# Altium footprint library TerminalBlock_Phoenix.PcbLib: 114 footprints (part 7 of 8)
Each footprint in its own frame and in the unit in brackets; x right, y up, seen from the top. Pads: shape width x height; smd on the part's side, far side on the other; paste and mask are expansions set on the pad; w line width, h text height; cw(c..) or ccw(c..) is an arc to the next point about the centre after c.
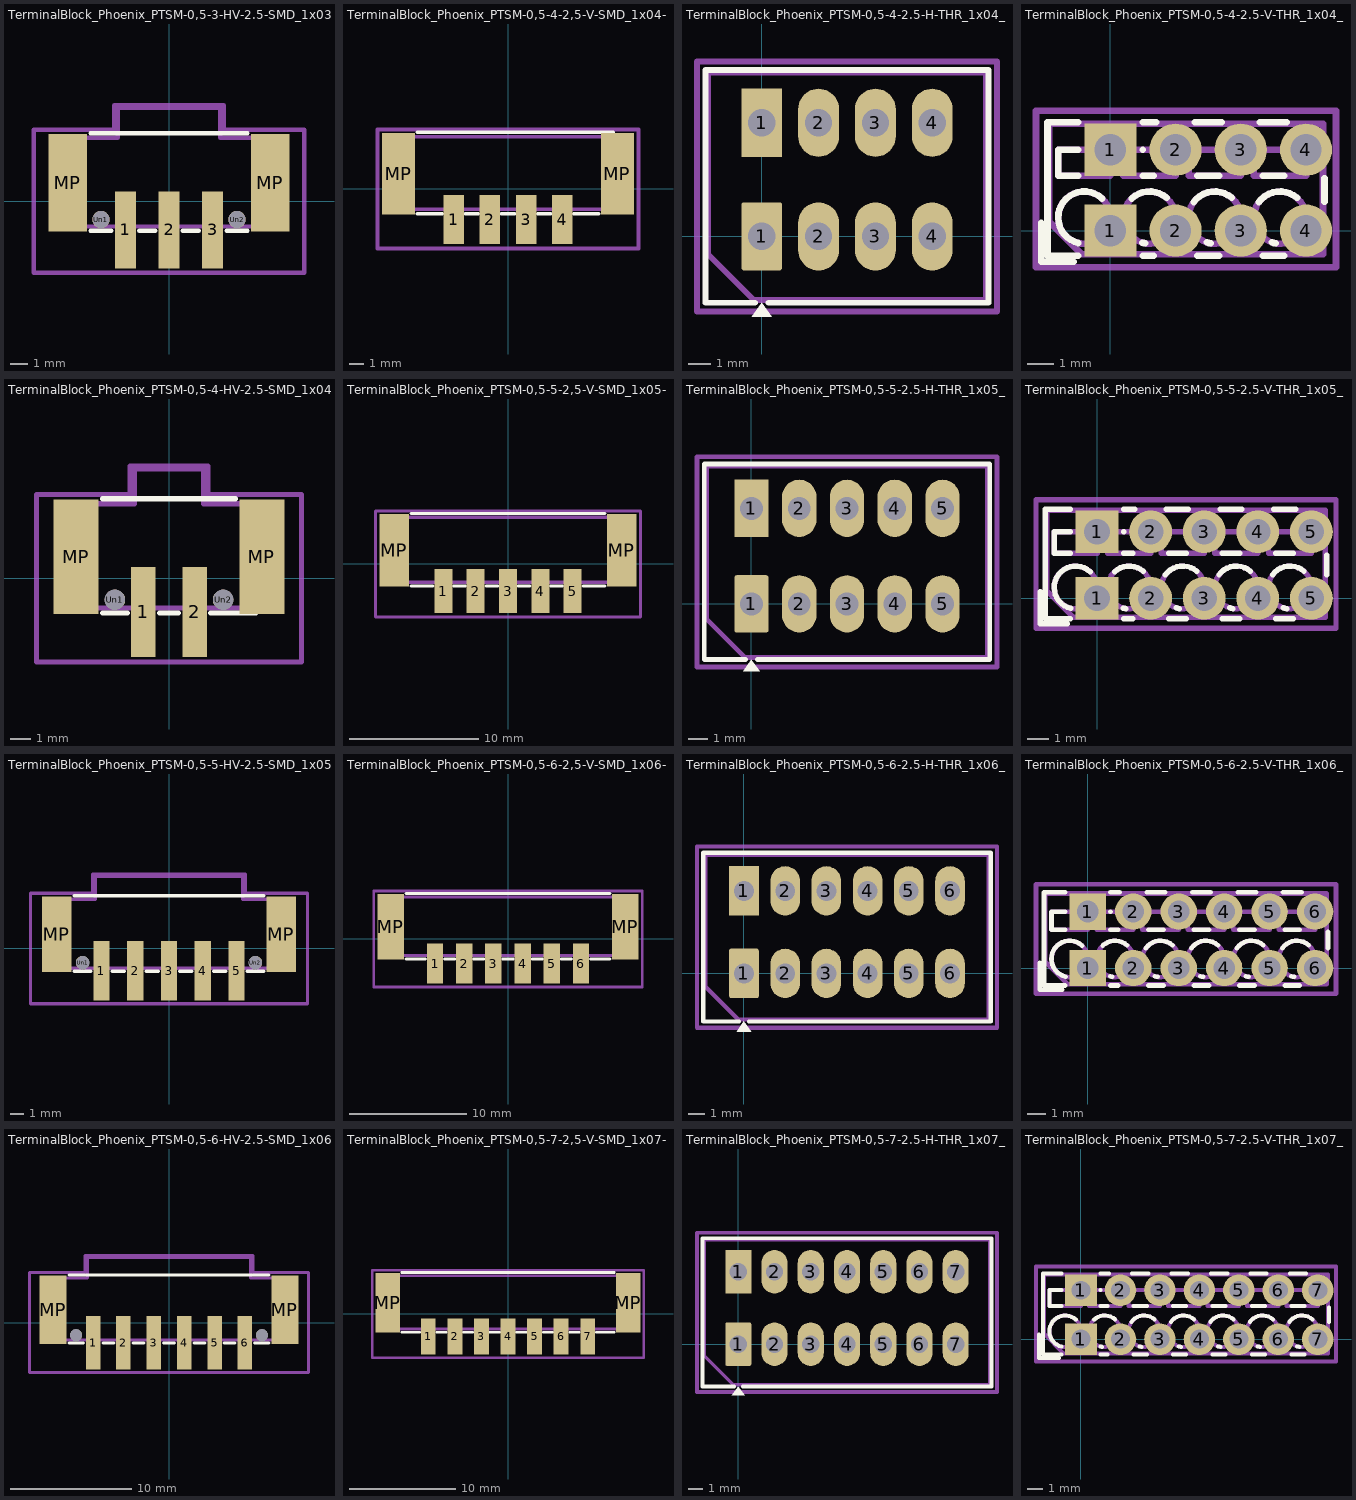
[diagram p6: the footprints below, top view; thin cyan lines are the x and y axes]

## TerminalBlock_Phoenix_PTSM-0,5-3-HV-2.5-SMD_1x03-1MP_P2.50mm_Vertical [mm]
pads (7):
  rect 1.2x4.4 smd: 1(-2.5,-1.65) 2(0,-1.65) 3(2.5,-1.65)
  rect 2.2x5.6 smd: MP(-5.8,1.05) MP(5.8,1.05)
  round 1 hole 1: Un1(-3.9,-1.05) Un2(3.9,-1.05)
F.SilkS:
  lines w0.254: -4.5,-1.7 -3.3,-1.7 ; -4.5,3.9 4.5,3.9 ; -1.7,-1.7 -0.8,-1.7 ; 0.8,-1.7 1.7,-1.7 ; 3.3,-1.7 4.5,-1.7
F.CrtYd:
  lines w0.254: -7.75,-4.1 -7.75,4.1 -3.15,4.1 -3.15,5.5 3.15,5.5 3.15,4.1 7.75,4.1 7.75,-4.1 -7.75,-4.1
F.Fab:
  lines w0.254: -6.55,3.55 -6.55,-1.45 6.55,-1.45 6.55,3.6 ; -6.55,3.65 -2.95,3.65 -2.95,5.35 2.95,5.35 2.95,3.65 6.55,3.65 ; -2.9,-1.45 -2.9,-3.51 -2.1,-3.51 -2.1,-1.45 ; -0.4,-1.45 -0.4,-3.51 0.4,-3.51 0.4,-1.45 ; 2.1,-1.45 2.1,-3.51 2.9,-3.51 2.9,-1.45
  text "'.Designator'" at -1.439,0.522 h1

## TerminalBlock_Phoenix_PTSM-0,5-4-2,5-V-SMD_1x04-1MP_P2.50mm_Vertical [mm]
pads (6):
  rect 1.4x3.4 smd: 1(-3.75,-2.13) 2(-1.25,-2.13) 3(1.25,-2.13) 4(3.75,-2.13)
  rect 2.3x5.6 smd: MP(-7.55,1.03) MP(7.55,1.03)
F.SilkS:
  lines w0.254: -6.25,-1.73 -4.55,-1.73 ; -6.25,3.88 7.25,3.88 ; -2.95,-1.73 -2.05,-1.73 ; -0.45,-1.73 0.45,-1.73 ; 2.05,-1.73 2.95,-1.73 ; 4.55,-1.73 6.25,-1.73
F.CrtYd:
  lines w0.254: -9,-4.13 -9,4.08 9,4.08 9,-4.13 -9,-4.13
F.Fab:
  lines w0.254: -4.15,-1.43 -4.15,-3.43 -3.35,-3.43 -3.35,-1.43 ; -1.65,-1.43 -1.65,-3.43 -0.85,-3.43 -0.85,-1.43 ; 0.85,-1.43 0.85,-3.43 1.65,-3.43 1.65,-1.43 ; 3.35,-1.43 3.35,-3.43 4.15,-3.43 4.15,-1.43 ; -7.55,-1.43 -7.55,3.58 7.55,3.58 7.55,-1.43 -7.55,-1.43
  text "'.Designator'" at -1.439,-0.323 h1

## TerminalBlock_Phoenix_PTSM-0,5-4-2.5-H-THR_1x04_P2.50mm_Horizontal [mm]
pads (8):
  rrect14% 1.8x3 hole 1.2: 1(0,0)
  rect 1.8x3 hole 1.2: 1(0,5)
  rrect100% 1.8x3 hole 1.2: 2(2.5,0) 2(2.5,5) 3(5,0) 3(5,5) 4(7.5,0) 4(7.5,5)
F.SilkS:
  region: 0.44,-3.53 -0.44,-3.53 0,-2.92
  lines w0.254: -0.3,-2.92 -2.47,-2.92 -2.47,7.32 9.97,7.32 9.97,-2.92 0.3,-2.92
F.CrtYd:
  lines w0.254: -2.85,-3.3 -2.85,7.7 10.35,7.7 10.35,-3.3 -2.85,-3.3
F.Fab:
  lines w0.254: -2.35,-0.8 -2.35,7.2 9.85,7.2 9.85,-2.8 -0.35,-2.8 -2.35,-0.8
  text "'.Designator'" at 2.311,1.802 h1

## TerminalBlock_Phoenix_PTSM-0,5-4-2.5-V-THR_1x04_P2.50mm_Vertical [mm]
pads (8):
  rect 2x2 hole 1.2: 1(0,0) 1(0,3.1)
  round 2 hole 1.2: 2(2.5,0) 2(2.5,3.1) 3(5,0) 3(5,3.1) 4(7.5,0) 4(7.5,3.1)
F.SilkS:
  lines w0.254: -2.65,0.29 -2.65,-1.2 -1.4,-1.2 ; -1.24,-0.961 -2.41,-0.961 -2.41,4.16 -1.24,4.16 ; -1.24,2.1 -2,2.1 -2,3.1 -1.24,3.1 ; -1.225,-0.475 cw(c-1,0.5) -0.318,1.232 ; 0.818,1.232 cw(c1.5,0.5) 2.157,1.255 ; 1.225,-0.462 ccw(c1.5,0.5) 1.344,-0.488 ; 1.24,-0.961 1.665,-0.961 ; 1.24,2.1 1.665,2.1 ; 1.24,3.1 1.245,3.1 ; 1.24,4.16 1.763,4.16 ; 3.191,1.089 cw(c4,0.5) 4.657,1.255 ; 3.238,4.16 4.263,4.16 ; 3.336,-0.961 4.165,-0.961 ; 3.336,2.1 4.165,2.1 ; 3.691,-0.452 ccw(c4,0.5) 3.844,-0.489 ; 5.691,1.089 cw(c6.5,0.5) 7.157,1.255 ; 5.738,4.16 6.763,4.16 ; 5.836,-0.961 6.665,-0.961 ; 5.836,2.1 6.665,2.1 ; 6.191,-0.452 ccw(c6.5,0.5) 6.344,-0.489 ; 8.21,1.1 8.21,2
F.CrtYd:
  lines w0.254: -2.85,-1.41 -2.85,4.6 8.65,4.6 8.65,-1.41 -2.85,-1.41
F.Fab:
  circle w0.254: c-1,0.5 r1
  circle w0.254: c1.5,0.5 r1
  circle w0.254: c4,0.5 r1
  circle w0.254: c6.5,0.5 r1
  lines w0.254: -2.35,0.35 -2.35,4.1 8.15,4.1 8.15,-0.9 -1.1,-0.9 -2.35,0.35 ; -2,2.1 -2,3.1 0,3.1 0,2.1 -2,2.1 ; 0.5,2.1 0.5,3.1 2.5,3.1 2.5,2.1 0.5,2.1 ; 3,2.1 3,3.1 5,3.1 5,2.1 3,2.1 ; 5.5,2.1 5.5,3.1 7.5,3.1 7.5,2.1 5.5,2.1
  text "'.Designator'" at 1.461,4.762 h1

## TerminalBlock_Phoenix_PTSM-0,5-4-HV-2.5-SMD_1x04-1MP_P2.50mm_Vertical [mm]
pads (6):
  rect 1.2x4.4 smd: 1(-1.25,-1.65) 2(1.25,-1.65)
  rect 2.2x5.6 smd: MP(-4.55,1.05) MP(4.55,1.05)
  round 1 hole 1: Un1(-2.65,-1.05) Un2(2.65,-1.05)
F.SilkS:
  lines w0.254: -3.25,-1.7 -2.05,-1.7 ; -3.25,3.9 3.25,3.9 ; -0.45,-1.7 0.45,-1.7 ; 2.05,-1.7 4.25,-1.7
F.CrtYd:
  lines w0.254: -6.5,-4.1 -6.5,4.1 -1.9,4.1 -1.9,5.5 1.9,5.5 1.9,4.1 6.5,4.1 6.5,-4.1 -6.5,-4.1
F.Fab:
  lines w0.254: -5.3,3.55 -5.3,-1.45 5.3,-1.45 5.3,3.6 ; -5.3,3.65 -1.7,3.65 -1.7,5.35 1.7,5.35 1.7,3.65 5.3,3.65 ; -1.65,-1.45 -1.65,-3.51 -0.85,-3.51 -0.85,-1.45 ; 0.85,-1.45 0.85,-3.51 1.65,-3.51 1.65,-1.45
  text "'.Designator'" at -1.439,0.522 h1

## TerminalBlock_Phoenix_PTSM-0,5-5-2,5-V-SMD_1x05-1MP_P2.50mm_Vertical [mm]
pads (7):
  rect 1.4x3.4 smd: 1(-5,-2.13) 2(-2.5,-2.13) 3(0,-2.13) 4(2.5,-2.13) 5(5,-2.13)
  rect 2.3x5.6 smd: MP(-8.8,1.03) MP(8.8,1.03)
F.SilkS:
  lines w0.254: -7.5,-1.73 -5.8,-1.73 ; -7.5,3.88 7.5,3.88 ; -4.2,-1.73 -3.3,-1.73 ; -1.7,-1.73 -0.8,-1.73 ; 0.8,-1.73 1.7,-1.73 ; 3.3,-1.73 4.2,-1.73 ; 5.8,-1.73 7.5,-1.73
F.CrtYd:
  lines w0.254: -10.25,-4.13 -10.25,4.08 10.25,4.08 10.25,-4.13 -10.25,-4.13
F.Fab:
  lines w0.254: -5.4,-1.43 -5.4,-3.43 -4.6,-3.43 -4.6,-1.43 ; -2.9,-1.43 -2.9,-3.43 -2.1,-3.43 -2.1,-1.43 ; -0.4,-1.43 -0.4,-3.43 0.4,-3.43 0.4,-1.43 ; 2.1,-1.43 2.1,-3.43 2.9,-3.43 2.9,-1.43 ; 4.6,-1.43 4.6,-3.43 5.4,-3.43 5.4,-1.43 ; -8.8,-1.43 -8.8,3.58 8.8,3.58 8.8,-1.43 -8.8,-1.43
  text "'.Designator'" at -1.439,-0.323 h1

## TerminalBlock_Phoenix_PTSM-0,5-5-2.5-H-THR_1x05_P2.50mm_Horizontal [mm]
pads (10):
  rrect14% 1.8x3 hole 1.2: 1(0,0)
  rect 1.8x3 hole 1.2: 1(0,5)
  rrect100% 1.8x3 hole 1.2: 2(2.5,0) 2(2.5,5) 3(5,0) 3(5,5) 4(7.5,0) 4(7.5,5) 5(10,0) 5(10,5)
F.SilkS:
  region: 0.44,-3.53 -0.44,-3.53 0,-2.92
  lines w0.254: -0.3,-2.92 -2.47,-2.92 -2.47,7.32 12.47,7.32 12.47,-2.92 0.3,-2.92
F.CrtYd:
  lines w0.254: -2.85,-3.3 -2.85,7.7 12.85,7.7 12.85,-3.3 -2.85,-3.3
F.Fab:
  lines w0.254: -2.35,-0.8 -2.35,7.2 12.35,7.2 12.35,-2.8 -0.35,-2.8 -2.35,-0.8
  text "'.Designator'" at 3.561,1.802 h1

## TerminalBlock_Phoenix_PTSM-0,5-5-2.5-V-THR_1x05_P2.50mm_Vertical [mm]
pads (10):
  rect 2x2 hole 1.2: 1(0,0) 1(0,3.1)
  round 2 hole 1.2: 2(2.5,0) 2(2.5,3.1) 3(5,0) 3(5,3.1) 4(7.5,0) 4(7.5,3.1) 5(10,0) 5(10,3.1)
F.SilkS:
  lines w0.254: -2.65,0.29 -2.65,-1.2 -1.4,-1.2 ; -1.24,-0.961 -2.41,-0.961 -2.41,4.16 -1.24,4.16 ; -1.24,2.1 -2,2.1 -2,3.1 -1.24,3.1 ; -1.225,-0.475 cw(c-1,0.5) -0.318,1.232 ; 0.818,1.232 cw(c1.5,0.5) 2.157,1.255 ; 1.225,-0.462 ccw(c1.5,0.5) 1.344,-0.488 ; 1.24,-0.961 1.665,-0.961 ; 1.24,2.1 1.665,2.1 ; 1.24,3.1 1.245,3.1 ; 1.24,4.16 1.763,4.16 ; 3.191,1.089 cw(c4,0.5) 4.657,1.255 ; 3.238,4.16 4.263,4.16 ; 3.336,-0.961 4.165,-0.961 ; 3.336,2.1 4.165,2.1 ; 3.691,-0.452 ccw(c4,0.5) 3.844,-0.489 ; 5.691,1.089 cw(c6.5,0.5) 7.157,1.255 ; 5.738,4.16 6.763,4.16 ; 5.836,-0.961 6.665,-0.961 ; 5.836,2.1 6.665,2.1 ; 6.191,-0.452 ccw(c6.5,0.5) 6.344,-0.489 ; 8.191,1.089 cw(c9,0.5) 9.657,1.255 ; 8.238,4.16 9.263,4.16 ; 8.336,-0.961 9.165,-0.961 ; 8.336,2.1 9.165,2.1 ; 8.691,-0.452 ccw(c9,0.5) 8.844,-0.489 ; 10.71,1.1 10.71,2
F.CrtYd:
  lines w0.254: -2.85,-1.41 -2.85,4.6 11.15,4.6 11.15,-1.41 -2.85,-1.41
F.Fab:
  circle w0.254: c-1,0.5 r1
  circle w0.254: c1.5,0.5 r1
  circle w0.254: c4,0.5 r1
  circle w0.254: c6.5,0.5 r1
  circle w0.254: c9,0.5 r1
  lines w0.254: -2.35,0.35 -2.35,4.1 10.65,4.1 10.65,-0.9 -1.1,-0.9 -2.35,0.35 ; -2,2.1 -2,3.1 0,3.1 0,2.1 -2,2.1 ; 0.5,2.1 0.5,3.1 2.5,3.1 2.5,2.1 0.5,2.1 ; 3,2.1 3,3.1 5,3.1 5,2.1 3,2.1 ; 5.5,2.1 5.5,3.1 7.5,3.1 7.5,2.1 5.5,2.1 ; 8,2.1 8,3.1 10,3.1 10,2.1 8,2.1
  text "'.Designator'" at 2.711,4.762 h1

## TerminalBlock_Phoenix_PTSM-0,5-5-HV-2.5-SMD_1x05-1MP_P2.50mm_Vertical [mm]
pads (9):
  rect 1.2x4.4 smd: 1(-5,-1.65) 2(-2.5,-1.65) 3(0,-1.65) 4(2.5,-1.65) 5(5,-1.65)
  rect 2.2x5.6 smd: MP(-8.3,1.05) MP(8.3,1.05)
  round 1 hole 1: Un1(-6.4,-1.05) Un2(6.4,-1.05)
F.SilkS:
  lines w0.254: -7,-1.7 -5.8,-1.7 ; -7,3.9 7,3.9 ; -4.2,-1.7 -3.3,-1.7 ; -1.7,-1.7 -0.8,-1.7 ; 0.8,-1.7 1.7,-1.7 ; 3.3,-1.7 4.2,-1.7 ; 5.8,-1.7 7,-1.7
F.CrtYd:
  lines w0.254: -10.25,-4.1 -10.25,4.1 -5.65,4.1 -5.65,5.5 5.65,5.5 5.65,4.1 10.25,4.1 10.25,-4.1 -10.25,-4.1
F.Fab:
  lines w0.254: -9.05,3.55 -9.05,-1.45 9.05,-1.45 9.05,3.6 ; -9.05,3.65 -5.45,3.65 -5.45,5.35 5.45,5.35 5.45,3.65 9.05,3.65 ; -5.4,-1.45 -5.4,-3.51 -4.6,-3.51 -4.6,-1.45 ; -2.9,-1.45 -2.9,-3.51 -2.1,-3.51 -2.1,-1.45 ; -0.4,-1.45 -0.4,-3.51 0.4,-3.51 0.4,-1.45 ; 2.1,-1.45 2.1,-3.51 2.9,-3.51 2.9,-1.45 ; 4.6,-1.45 4.6,-3.51 5.4,-3.51 5.4,-1.45
  text "'.Designator'" at -1.439,0.522 h1

## TerminalBlock_Phoenix_PTSM-0,5-6-2,5-V-SMD_1x06-1MP_P2.50mm_Vertical [mm]
pads (8):
  rect 1.4x3.4 smd: 1(-6.25,-2.13) 2(-3.75,-2.13) 3(-1.25,-2.13) 4(1.25,-2.13) 5(3.75,-2.13) 6(6.25,-2.13)
  rect 2.3x5.6 smd: MP(-10.05,1.03) MP(10.05,1.03)
F.SilkS:
  lines w0.254: -8.75,-1.73 -7.05,-1.73 ; -8.75,3.88 8.75,3.88 ; -5.45,-1.73 -4.55,-1.73 ; -2.95,-1.73 -2.05,-1.73 ; -0.45,-1.73 0.45,-1.73 ; 2.05,-1.73 2.95,-1.73 ; 4.55,-1.73 5.45,-1.73 ; 7.05,-1.73 8.75,-1.73
F.CrtYd:
  lines w0.254: -11.5,-4.13 -11.5,4.08 11.5,4.08 11.5,-4.13 -11.5,-4.13
F.Fab:
  lines w0.254: -6.65,-1.43 -6.65,-3.43 -5.85,-3.43 -5.85,-1.43 ; -4.15,-1.43 -4.15,-3.43 -3.35,-3.43 -3.35,-1.43 ; -1.65,-1.43 -1.65,-3.43 -0.85,-3.43 -0.85,-1.43 ; 0.85,-1.43 0.85,-3.43 1.65,-3.43 1.65,-1.43 ; 3.35,-1.43 3.35,-3.43 4.15,-3.43 4.15,-1.43 ; 5.85,-1.43 5.85,-3.43 6.65,-3.43 6.65,-1.43 ; -10.05,-1.43 -10.05,3.58 10.05,3.58 10.05,-1.43 -10.05,-1.43
  text "'.Designator'" at -1.439,-0.323 h1

## TerminalBlock_Phoenix_PTSM-0,5-6-2.5-H-THR_1x06_P2.50mm_Horizontal [mm]
pads (12):
  rrect14% 1.8x3 hole 1.2: 1(0,0)
  rect 1.8x3 hole 1.2: 1(0,5)
  rrect100% 1.8x3 hole 1.2: 2(2.5,0) 2(2.5,5) 3(5,0) 3(5,5) 4(7.5,0) 4(7.5,5) 5(10,0) 5(10,5) 6(12.5,0) 6(12.5,5)
F.SilkS:
  region: 0.44,-3.53 -0.44,-3.53 0,-2.92
  lines w0.254: -0.3,-2.92 -2.47,-2.92 -2.47,7.32 14.97,7.32 14.97,-2.92 0.3,-2.92
F.CrtYd:
  lines w0.254: -2.85,-3.3 -2.85,7.7 15.35,7.7 15.35,-3.3 -2.85,-3.3
F.Fab:
  lines w0.254: -2.35,-0.8 -2.35,7.2 14.85,7.2 14.85,-2.8 -0.35,-2.8 -2.35,-0.8
  text "'.Designator'" at 4.811,1.802 h1

## TerminalBlock_Phoenix_PTSM-0,5-6-2.5-V-THR_1x06_P2.50mm_Vertical [mm]
pads (12):
  rect 2x2 hole 1.2: 1(0,0) 1(0,3.1)
  round 2 hole 1.2: 2(2.5,0) 2(2.5,3.1) 3(5,0) 3(5,3.1) 4(7.5,0) 4(7.5,3.1) 5(10,0) 5(10,3.1) 6(12.5,0) 6(12.5,3.1)
F.SilkS:
  lines w0.254: -2.65,0.29 -2.65,-1.2 -1.4,-1.2 ; -1.24,-0.961 -2.41,-0.961 -2.41,4.16 -1.24,4.16 ; -1.24,2.1 -2,2.1 -2,3.1 -1.24,3.1 ; -1.225,-0.475 cw(c-1,0.5) -0.318,1.232 ; 0.818,1.232 cw(c1.5,0.5) 2.157,1.255 ; 1.225,-0.462 ccw(c1.5,0.5) 1.344,-0.488 ; 1.24,-0.961 1.665,-0.961 ; 1.24,2.1 1.665,2.1 ; 1.24,3.1 1.245,3.1 ; 1.24,4.16 1.763,4.16 ; 3.191,1.089 cw(c4,0.5) 4.657,1.255 ; 3.238,4.16 4.263,4.16 ; 3.336,-0.961 4.165,-0.961 ; 3.336,2.1 4.165,2.1 ; 3.691,-0.452 ccw(c4,0.5) 3.844,-0.489 ; 5.691,1.089 cw(c6.5,0.5) 7.157,1.255 ; 5.738,4.16 6.763,4.16 ; 5.836,-0.961 6.665,-0.961 ; 5.836,2.1 6.665,2.1 ; 6.191,-0.452 ccw(c6.5,0.5) 6.344,-0.489 ; 8.191,1.089 cw(c9,0.5) 9.657,1.255 ; 8.238,4.16 9.263,4.16 ; 8.336,-0.961 9.165,-0.961 ; 8.336,2.1 9.165,2.1 ; 8.691,-0.452 ccw(c9,0.5) 8.844,-0.489 ; 10.691,1.089 cw(c11.5,0.5) 12.157,1.255 ; 10.738,4.16 11.763,4.16 ; 10.836,-0.961 11.665,-0.961 ; 10.836,2.1 11.665,2.1 ; 11.191,-0.452 ccw(c11.5,0.5) 11.344,-0.489 ; 13.21,1.1 13.21,2
F.CrtYd:
  lines w0.254: -2.85,-1.41 -2.85,4.6 13.65,4.6 13.65,-1.41 -2.85,-1.41
F.Fab:
  circle w0.254: c-1,0.5 r1
  circle w0.254: c1.5,0.5 r1
  circle w0.254: c4,0.5 r1
  circle w0.254: c6.5,0.5 r1
  circle w0.254: c9,0.5 r1
  circle w0.254: c11.5,0.5 r1
  lines w0.254: -2.35,0.35 -2.35,4.1 13.15,4.1 13.15,-0.9 -1.1,-0.9 -2.35,0.35 ; -2,2.1 -2,3.1 0,3.1 0,2.1 -2,2.1 ; 0.5,2.1 0.5,3.1 2.5,3.1 2.5,2.1 0.5,2.1 ; 3,2.1 3,3.1 5,3.1 5,2.1 3,2.1 ; 5.5,2.1 5.5,3.1 7.5,3.1 7.5,2.1 5.5,2.1 ; 8,2.1 8,3.1 10,3.1 10,2.1 8,2.1 ; 10.5,2.1 10.5,3.1 12.5,3.1 12.5,2.1 10.5,2.1
  text "'.Designator'" at 3.961,4.762 h1

## TerminalBlock_Phoenix_PTSM-0,5-6-HV-2.5-SMD_1x06-1MP_P2.50mm_Vertical [mm]
pads (10):
  rect 1.2x4.4 smd: 1(-6.25,-1.65) 2(-3.75,-1.65) 3(-1.25,-1.65) 4(1.25,-1.65) 5(3.75,-1.65) 6(6.25,-1.65)
  rect 2.2x5.6 smd: MP(-9.55,1.05) MP(9.55,1.05)
  round 1 hole 1: Un1(-7.65,-1.05) Un2(7.65,-1.05)
F.SilkS:
  lines w0.254: -8.25,-1.7 -7.05,-1.7 ; -8.25,3.9 8.25,3.9 ; -5.45,-1.7 -4.55,-1.7 ; -2.95,-1.7 -2.05,-1.7 ; -0.45,-1.7 0.45,-1.7 ; 2.05,-1.7 2.95,-1.7 ; 4.55,-1.7 5.45,-1.7 ; 7.05,-1.7 8.25,-1.7
F.CrtYd:
  lines w0.254: -11.5,-4.1 -11.5,4.1 -6.9,4.1 -6.9,5.5 6.9,5.5 6.9,4.1 11.5,4.1 11.5,-4.1 -11.5,-4.1
F.Fab:
  lines w0.254: -10.3,3.55 -10.3,-1.45 10.3,-1.45 10.3,3.6 ; -10.3,3.65 -6.7,3.65 -6.7,5.35 6.7,5.35 6.7,3.65 10.3,3.65 ; -6.65,-1.45 -6.65,-3.51 -5.85,-3.51 -5.85,-1.45 ; -4.15,-1.45 -4.15,-3.51 -3.35,-3.51 -3.35,-1.45 ; -1.65,-1.45 -1.65,-3.51 -0.85,-3.51 -0.85,-1.45 ; 0.85,-1.45 0.85,-3.51 1.65,-3.51 1.65,-1.45 ; 3.35,-1.45 3.35,-3.51 4.15,-3.51 4.15,-1.45 ; 5.85,-1.45 5.85,-3.51 6.65,-3.51 6.65,-1.45
  text "'.Designator'" at -1.439,0.522 h1

## TerminalBlock_Phoenix_PTSM-0,5-7-2,5-V-SMD_1x07-1MP_P2.50mm_Vertical [mm]
pads (9):
  rect 1.4x3.4 smd: 1(-7.5,-2.13) 2(-5,-2.13) 3(-2.5,-2.13) 4(0,-2.13) 5(2.5,-2.13) 6(5,-2.13) 7(7.5,-2.13)
  rect 2.3x5.6 smd: MP(-11.3,1.03) MP(11.3,1.03)
F.SilkS:
  lines w0.254: -10,-1.73 -8.3,-1.73 ; -10,3.88 10,3.88 ; -6.7,-1.73 -5.8,-1.73 ; -4.2,-1.73 -3.3,-1.73 ; -1.7,-1.73 -0.8,-1.73 ; 0.8,-1.73 1.7,-1.73 ; 3.3,-1.73 4.2,-1.73 ; 5.8,-1.73 6.7,-1.73 ; 8.3,-1.73 10,-1.73
F.CrtYd:
  lines w0.254: -12.75,-4.13 -12.75,4.08 12.75,4.08 12.75,-4.13 -12.75,-4.13
F.Fab:
  lines w0.254: -7.9,-1.43 -7.9,-3.43 -7.1,-3.43 -7.1,-1.43 ; -5.4,-1.43 -5.4,-3.43 -4.6,-3.43 -4.6,-1.43 ; -2.9,-1.43 -2.9,-3.43 -2.1,-3.43 -2.1,-1.43 ; -0.4,-1.43 -0.4,-3.43 0.4,-3.43 0.4,-1.43 ; 2.1,-1.43 2.1,-3.43 2.9,-3.43 2.9,-1.43 ; 4.6,-1.43 4.6,-3.43 5.4,-3.43 5.4,-1.43 ; 7.1,-1.43 7.1,-3.43 7.9,-3.43 7.9,-1.43 ; -11.3,-1.43 -11.3,3.58 11.3,3.58 11.3,-1.43 -11.3,-1.43
  text "'.Designator'" at -1.439,-0.323 h1

## TerminalBlock_Phoenix_PTSM-0,5-7-2.5-H-THR_1x07_P2.50mm_Horizontal [mm]
pads (14):
  rrect14% 1.8x3 hole 1.2: 1(0,0)
  rect 1.8x3 hole 1.2: 1(0,5)
  rrect100% 1.8x3 hole 1.2: 2(2.5,0) 2(2.5,5) 3(5,0) 3(5,5) 4(7.5,0) 4(7.5,5) 5(10,0) 5(10,5) 6(12.5,0) 6(12.5,5) 7(15,0) 7(15,5)
F.SilkS:
  region: 0.44,-3.53 -0.44,-3.53 0,-2.92
  lines w0.254: -0.3,-2.92 -2.47,-2.92 -2.47,7.32 17.47,7.32 17.47,-2.92 0.3,-2.92
F.CrtYd:
  lines w0.254: -2.85,-3.3 -2.85,7.7 17.85,7.7 17.85,-3.3 -2.85,-3.3
F.Fab:
  lines w0.254: -2.35,-0.8 -2.35,7.2 17.35,7.2 17.35,-2.8 -0.35,-2.8 -2.35,-0.8
  text "'.Designator'" at 6.061,1.802 h1

## TerminalBlock_Phoenix_PTSM-0,5-7-2.5-V-THR_1x07_P2.50mm_Vertical [mm]
pads (14):
  rect 2x2 hole 1.2: 1(0,0) 1(0,3.1)
  round 2 hole 1.2: 2(2.5,0) 2(2.5,3.1) 3(5,0) 3(5,3.1) 4(7.5,0) 4(7.5,3.1) 5(10,0) 5(10,3.1) 6(12.5,0) 6(12.5,3.1) 7(15,0) 7(15,3.1)
F.SilkS:
  lines w0.254: -2.65,0.29 -2.65,-1.2 -1.4,-1.2 ; -1.24,-0.961 -2.41,-0.961 -2.41,4.16 -1.24,4.16 ; -1.24,2.1 -2,2.1 -2,3.1 -1.24,3.1 ; -1.225,-0.475 cw(c-1,0.5) -0.318,1.232 ; 0.818,1.232 cw(c1.5,0.5) 2.157,1.255 ; 1.225,-0.462 ccw(c1.5,0.5) 1.344,-0.488 ; 1.24,-0.961 1.665,-0.961 ; 1.24,2.1 1.665,2.1 ; 1.24,3.1 1.245,3.1 ; 1.24,4.16 1.763,4.16 ; 3.191,1.089 cw(c4,0.5) 4.657,1.255 ; 3.238,4.16 4.263,4.16 ; 3.336,-0.961 4.165,-0.961 ; 3.336,2.1 4.165,2.1 ; 3.691,-0.452 ccw(c4,0.5) 3.844,-0.489 ; 5.691,1.089 cw(c6.5,0.5) 7.157,1.255 ; 5.738,4.16 6.763,4.16 ; 5.836,-0.961 6.665,-0.961 ; 5.836,2.1 6.665,2.1 ; 6.191,-0.452 ccw(c6.5,0.5) 6.344,-0.489 ; 8.191,1.089 cw(c9,0.5) 9.657,1.255 ; 8.238,4.16 9.263,4.16 ; 8.336,-0.961 9.165,-0.961 ; 8.336,2.1 9.165,2.1 ; 8.691,-0.452 ccw(c9,0.5) 8.844,-0.489 ; 10.691,1.089 cw(c11.5,0.5) 12.157,1.255 ; 10.738,4.16 11.763,4.16 ; 10.836,-0.961 11.665,-0.961 ; 10.836,2.1 11.665,2.1 ; 11.191,-0.452 ccw(c11.5,0.5) 11.344,-0.489 ; 13.191,1.089 cw(c14,0.5) 14.657,1.255 ; 13.238,4.16 14.263,4.16 ; 13.336,-0.961 14.165,-0.961 ; 13.336,2.1 14.165,2.1 ; 13.691,-0.452 ccw(c14,0.5) 13.844,-0.489 ; 15.71,1.1 15.71,2
F.CrtYd:
  lines w0.254: -2.85,-1.41 -2.85,4.6 16.15,4.6 16.15,-1.41 -2.85,-1.41
F.Fab:
  circle w0.254: c-1,0.5 r1
  circle w0.254: c1.5,0.5 r1
  circle w0.254: c4,0.5 r1
  circle w0.254: c6.5,0.5 r1
  circle w0.254: c9,0.5 r1
  circle w0.254: c11.5,0.5 r1
  circle w0.254: c14,0.5 r1
  lines w0.254: -2.35,0.35 -2.35,4.1 15.65,4.1 15.65,-0.9 -1.1,-0.9 -2.35,0.35 ; -2,2.1 -2,3.1 0,3.1 0,2.1 -2,2.1 ; 0.5,2.1 0.5,3.1 2.5,3.1 2.5,2.1 0.5,2.1 ; 3,2.1 3,3.1 5,3.1 5,2.1 3,2.1 ; 5.5,2.1 5.5,3.1 7.5,3.1 7.5,2.1 5.5,2.1 ; 8,2.1 8,3.1 10,3.1 10,2.1 8,2.1 ; 10.5,2.1 10.5,3.1 12.5,3.1 12.5,2.1 10.5,2.1 ; 13,2.1 13,3.1 15,3.1 15,2.1 13,2.1
  text "'.Designator'" at 5.211,4.762 h1